# Altium footprint library PcbLib1.PcbLib: 5 footprints
Each footprint in its own frame and in the unit in brackets; x right, y up, seen from the top. Pads: shape width x height; smd on the part's side, far side on the other; paste and mask are expansions set on the pad; w line width, h text height; cw(c..) or ccw(c..) is an arc to the next point about the centre after c.
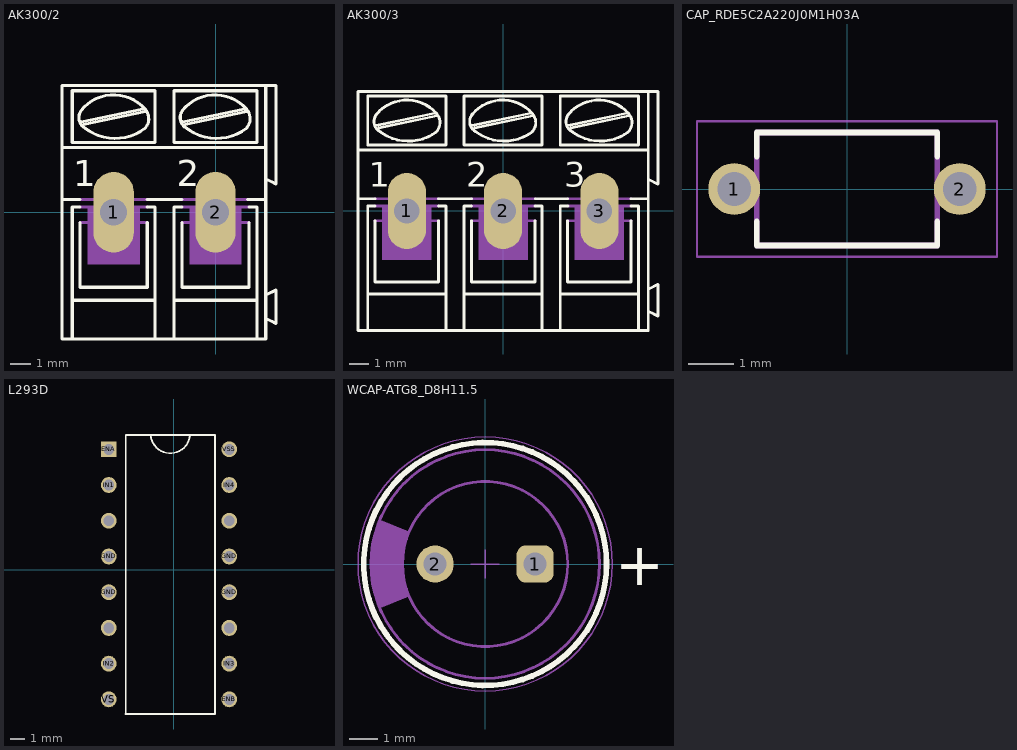
[diagram p0: the footprints below, top view; thin cyan lines are the x and y axes]

## AK300/2 [mil]
pads (2):
  oval 78x156 hole 52: 1(-197,0) 2(0,0)
Top Overlay:
  lines w6: -297,245 -297,125 -297,25 ; -295,125 97,125 ; -295,245 97,245 ; -262,-20 -262,-145 -132,-145 -132,-20 ; -262,10 -277,10 -277,-170 ; -262,25 -297,25 ; -260,175 -140,200 ; -259.99,197.01 cw(c-197,146) -135.82,199.18 ; -258.08,198.92 ccw(c-241,183) -252.32,162.57 ; -255,170 -135,195 ; -254.44,164.36 ccw(c-194,239) -136.19,162.29 ; -138.1,160.91 ccw(c-156.19,181.01) -136.09,199.1 ; -132,10 -117,10 -117,-170 ; -132,25 -65,25 ; -65,-20 -65,-145 65,-145 65,-20 ; -65,10 -80,10 -80,-170 ; -64,175 56,200 ; -63.99,197.01 cw(c-1,146) 60.18,199.18 ; -62.08,198.92 ccw(c-45,183) -56.32,162.57 ; -59,170 61,195 ; -58.44,164.36 ccw(c2,239) 59.8,162.29 ; 57.9,160.91 ccw(c39.81,181.01) 59.91,199.1 ; 62,25 97,25 ; 65,10 80,10 80,-170 ; 77,-245 97,-245 97,-205 ; -297,25 -297,-245 -277,-245 ; -277,-245 -277,-170 ; -277,-245 -117,-245 ; -277,-170 -117,-170 ; -117,-245 -80,-245 ; -117,-245 -117,-170 ; -80,-245 80,-245 80,-170 ; -80,-245 -80,-170 ; -80,-170 80,-170 ; 97,-205 97,-160 ; 97,-205 117,-215 117,-150 97,-160 ; 97,-160 97,25 ; 97,25 97,65 ; 97,65 97,125 ; 97,65 117,55 117,245 97,245 ; 97,125 97,245 ; -277,135 -277,235 -117,235 -117,135 -277,135 ; -80,135 80,135 80,235 -80,235 -80,135
  text "1" at -275,50 h50
  text "2" at -75,50 h50
Mechanical 13:
  region: 50,-100 -50,-100 -50,10 50,10
  region: -147,-100 -247,-100 -247,10 -147,10
  lines w6: -262,-20 -247,-20 ; -262,10 -132,10 ; -262,25 -132,25 ; -147,-20 -132,-20 ; -65,-20 -50,-20 ; -65,10 65,10 ; -65,25 65,25 ; 50,-20 65,-20
3D body "DG300-5.0-02P-12-00AH.STEP": height 496.06, standoff -173.23, extent -319.04,-157.47 98.28,196.86

## AK300/3 [mil]
pads (3):
  oval 78x156 hole 52: 1(-197,0) 2(0,0) 3(197,0)
Top Overlay:
  lines w6: -262,-20 -262,-145 -132,-145 -132,-20 ; -262,10 -277,10 -277,-170 ; -262,25 -297,25 ; -260,175 -140,200 ; -259.99,197.01 cw(c-197,146) -135.82,199.18 ; -258.08,198.92 ccw(c-241,183) -252.32,162.57 ; -255,170 -135,195 ; -254.44,164.36 ccw(c-194,239) -136.19,162.29 ; -138.1,160.91 ccw(c-156.19,181.01) -136.09,199.1 ; -132,10 -117,10 -117,-170 ; -132,25 -65,25 ; -65,-20 -65,-145 65,-145 65,-20 ; -65,10 -80,10 -80,-170 ; -64,175 56,200 ; -63.99,197.01 cw(c-1,146) 60.18,199.18 ; -62.08,198.92 ccw(c-45,183) -56.32,162.57 ; -59,170 61,195 ; -58.44,164.36 ccw(c2,239) 59.8,162.29 ; 57.9,160.91 ccw(c39.81,181.01) 59.91,199.1 ; 65,10 80,10 80,-170 ; 66,25 132,25 ; 132,-20 132,-145 262,-145 262,-20 ; 133,10 117,10 117,-170 ; 133,175 253,200 ; 133.01,197.01 cw(c196,146) 257.17,199.17 ; 134.92,198.92 ccw(c152,183) 140.68,162.57 ; 138,170 258,195 ; 138.56,164.36 ccw(c199,239) 256.8,162.29 ; 254.9,160.91 ccw(c236.81,181.01) 256.91,199.1 ; 262,10 277,10 277,-170 ; 262,25 297,25 ; -297,25 -297,125 ; -297,25 -297,-245 -277,-245 ; -297,125 -297,245 297,245 ; -297,125 297,125 ; -277,-245 -277,-170 ; -277,-245 -117,-245 ; -277,-170 -117,-170 ; -117,-245 -80,-245 ; -117,-245 -117,-170 ; -80,-245 80,-245 ; -80,-245 -80,-170 ; -80,-170 80,-170 ; 80,-245 80,-170 ; 80,-245 117,-245 ; 117,-245 277,-245 ; 117,-245 117,-170 ; 117,-170 277,-170 ; 277,-245 277,-170 ; 277,-245 297,-245 297,-205 ; 297,-205 297,-160 ; 297,-205 317,-215 317,-150 297,-160 ; 297,-160 297,25 ; 297,25 297,65 ; 297,65 297,125 ; 297,65 317,55 317,245 297,245 ; 297,125 297,245 ; -277,135 -277,235 -117,235 -117,135 -277,135 ; -80,135 80,135 80,235 -80,235 -80,135 ; 117,135 277,135 277,235 117,235 117,135
  text "3" at 125,50 h50
  text "1" at -275,50 h50
  text "2" at -75,50 h50
Mechanical 13:
  region: 247,-100 147,-100 147,10 247,10
  region: 50,-100 -50,-100 -50,10 50,10
  region: -147,-100 -247,-100 -247,10 -147,10
  lines w6: -262,-20 -247,-20 ; -262,10 -132,10 ; -262,25 -132,25 ; -147,-20 -132,-20 ; -65,-20 -50,-20 ; -65,10 65,10 ; -65,25 65,25 ; 50,-20 65,-20 ; 132,-20 146,-20 ; 133,10 262,10 ; 133,25 262,25 ; 247,-20 262,-20
3D body "DG300-5.0-03P-12-00AH.STEP": height 496.06, standoff -173.23, extent -318.89,-157.47 295.28,196.86

## CAP_RDE5C2A220J0M1H03A [mm]
pads (2):
  round 1.15 hole 0.75: 1(-2.5,0) 2(2.5,0)
Top Overlay:
  lines w0.127: -2,-0.72 -2,-1.25 2,-1.25 2,-0.72 ; -2,0.72 -2,1.25 2,1.25 2,0.72
Mechanical 13:
  lines w0.127: -2,-1.25 2,-1.25 2,1.25 -2,1.25 -2,-1.25
Mechanical 15:
  lines w0.05: -3.325,-1.5 3.325,-1.5 3.325,1.5 -3.325,1.5 -3.325,-1.5
3D body "RDE5C2A220J0M1H03A.STEP": height 6, standoff -22.5, extent -2.75,-1.27 2.75,1.23

## L293D [mm]
pads (16):
  rect 1.13x1.13 hole 0.78: ENA(-4.623,8.56)
  round 1.13 hole 0.78: ENB(3.945,-9.22) GND(-4.623,-1.6) GND(-4.623,0.94) GND(3.945,-1.6) GND(3.945,0.94) IN1(-4.623,6.02) IN2(-4.623,-6.68) IN3(3.945,-6.68) IN4(3.945,6.02) OUT1(-4.623,3.48) OUT2(-4.623,-4.14) OUT3(3.945,-4.14) OUT4(3.945,3.48) VS(-4.623,-9.22) VSS(3.945,8.56)
Top Overlay:
  lines w0.127: -3.429,-10.262 2.929,-10.262 2.929,9.55 ; -3.421,-10.262 -3.421,9.55 ; -3.421,9.576 2.929,9.576 ; -1.64,9.576 ccw(c-0.246,9.672) 1.148,9.576
3D body "L293D.STEP": height 6.37, standoff -2.03, extent -5.001,-10.33 4.24,9.67

## WCAP-ATG8_D8H11.5 [mm] "Aluminum Electrolytic Capacitors, 8x11.5mm"
height 11.5
pads (2):
  rrect50% 1.3x1.3 hole 0.8: 1(1.75,0)
  round 1.3 hole 0.8: 2(-1.75,0)
Top Overlay:
  circle w0.2: c0,0 r4.25
  text "+" at 4.55,-0.75 h1.5
Mechanical 11:
  circle w0.1: c0,0 r4
  circle w0.1: c0,0 r2.89
  region: -3.685,-1.557 -3.762,-1.372 -3.881,-0.99 -3.96,-0.598 -4,-0.2 -4,0.2 -3.96,0.598 -3.881,0.99 -3.762,1.372 -3.685,1.557 -2.662,1.125 -2.662,1.124 -2.715,0.99 -2.8,0.714 -2.858,0.431 -2.886,0.144 -2.886,-0.144 -2.858,-0.431 -2.8,-0.714 -2.715,-0.99 -2.662,-1.124 -2.662,-1.125
  text ".Designator" at -2,-0.6 h1.2
Mechanical 15:
  circle w0.05: c0,0 r4.45
  lines w0.05: -0.5,0 0.5,0 ; 0,-0.5 0,0.5
3D body "8x11.5x3.5x0.5.stp": height 11.81, standoff -19.91, extent -3.99,-4 4,3.999